# Altium footprint library Inductors.PcbLib: 3 footprints
Each footprint in its own frame and in the unit in brackets; x right, y up, seen from the top. Pads: shape width x height; smd on the part's side, far side on the other; paste and mask are expansions set on the pad; w line width, h text height; cw(c..) or ccw(c..) is an arc to the next point about the centre after c.
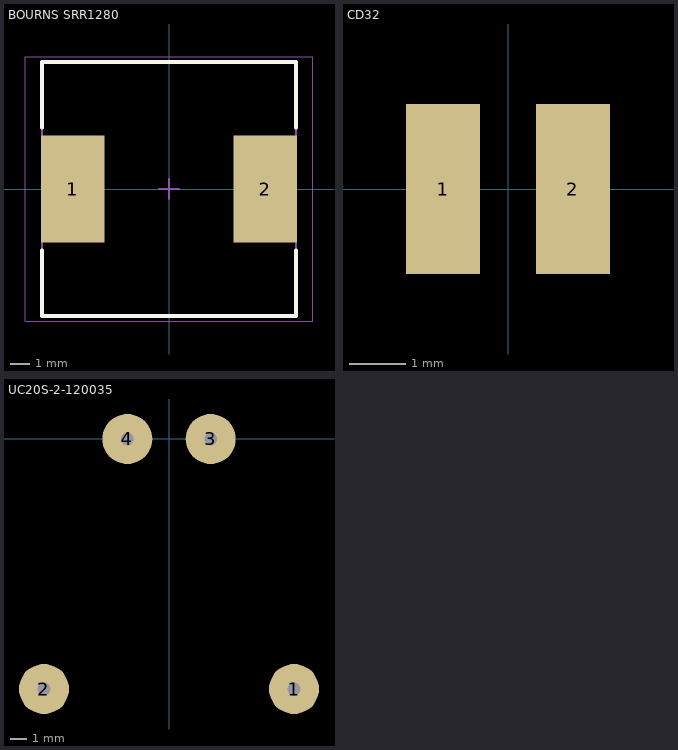
[diagram p0: the footprints below, top view; thin cyan lines are the x and y axes]

## BOURNS SRR1280 [mm] "Precision Wire Wound Inductor, 2-Leads, Body 12.50x12.50mm, IPC Medium Density"
height 8
pads (2):
  rect 3.2x5.4 smd: 1(-4.85,0) 2(4.85,0)
Top Overlay:
  lines w0.2: -6.4,-3.1 -6.4,-6.4 6.4,-6.4 6.4,-3.1 ; -6.4,3.1 -6.4,6.4 6.4,6.4 6.4,3.1
Mechanical 13:
  lines w0.1: -6.4,-6.4 6.4,-6.4 6.4,6.4 -6.4,6.4 -6.4,-6.4
Mechanical 15:
  lines w0.05: -7.225,-6.65 7.225,-6.65 7.225,6.65 -7.225,6.65 -7.225,-6.65
  lines w0.1: -0.5,0 0.5,0 ; 0,-0.5 0,0.5
3D body "SRR1280.STEP": height 7.9, standoff 0, extent -6.25,-6.25 6.25,6.25

## CD32 [mm] "SMT inductor 3.0mm x 3.5mm x 2.1mm"
pads (2):
  rect 1.3x3 smd: 1(-1.143,0) 2(1.143,0)
3D body "User Library-CD32 inductor.step": height 2.1, standoff 0, extent -1.651,-1.5 1.651,1.5

## UC20S-2-120035 [mm] "transformer"
pads (4):
  round 3 hole 0.762: 1(7.5,-15) 2(-7.5,-15) 3(2.5,0) 4(-2.5,0)
3D body "transformer UC20s-2-120035.STEP": height 15.01, standoff -3.99, extent -11,-19 11,4